# Altium integrated library PortiloopV2Altium_Project.IntLib: 39 symbols
Pins are listed as number, name and electrical type; pins without a type are passive.

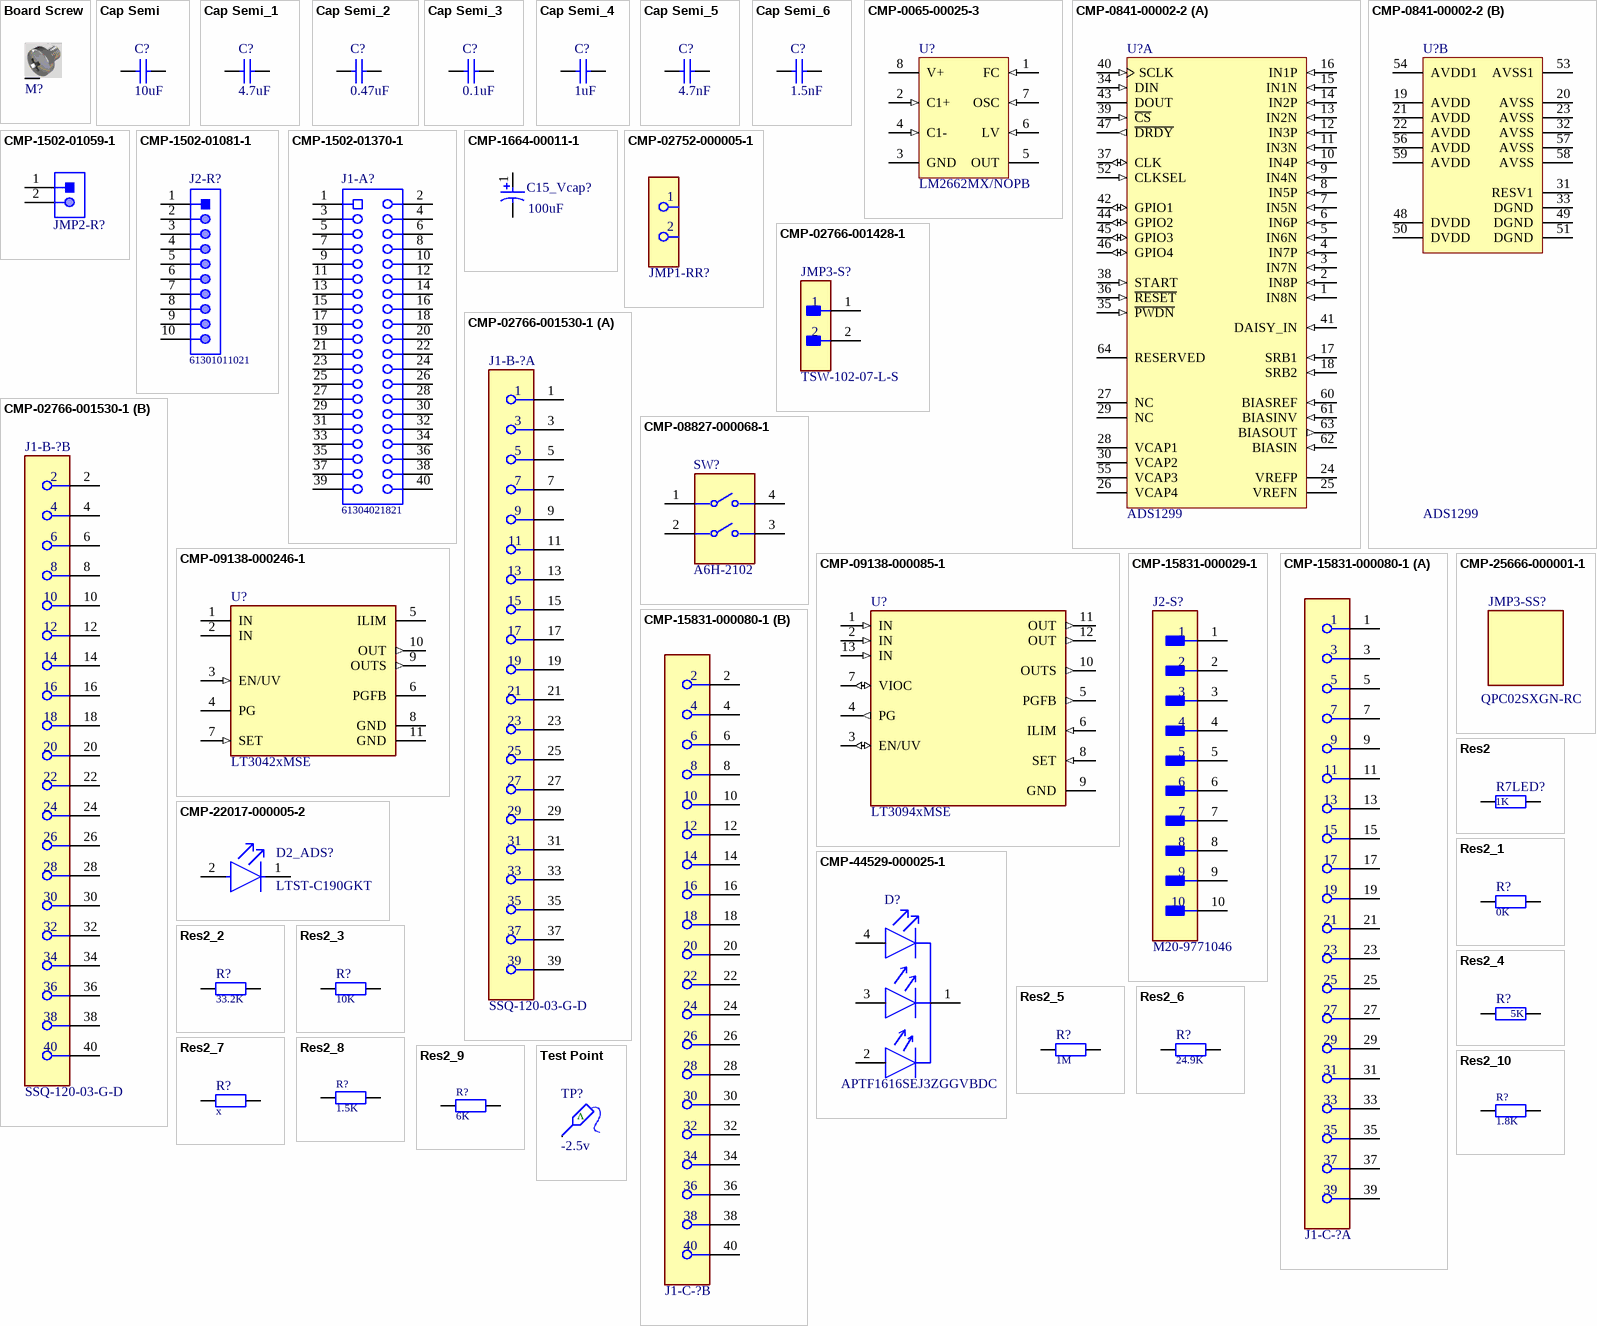
[diagram p0: symbols Board Screw to Test Point]

## Board Screw
designator M?, comment Screw  (value not drawn)
Board Screw With Spacer
footprint Board Screw_No Silk
pins: S

## Cap Semi
designator C?, comment value 10uF  (hidden comment: 10mkf)
Published: 8-Jun-2000; LatestRevisionDate: 29-May-2009; LatestRevisionNote: IPC-7351 Footprint Added.; PackageReference: C1206; Publisher: Altium Limited; PackageDescription: Chip Capacitor
footprint C1206 (Chip Capacitor, Body 3.2x1.6mm, IPC High Density)
footprint 0402 (Chip Capacitor, Body 1.0x0.5mm, IPC High Density)
footprint C2512 (Chip Capacitor, Body 2.54x1.27mm, IPC High Density)
footprint 1608[0603] (Chip Capacitor, Body 1.6x0.8mm, IPC High Density)
footprint C1210 (Chip Capacitor, Body 3.2x2.5mm, IPC High Density)
simulation model CAP (Semiconductor Capacitor)
signal-integrity model Cap Semi
pins: 1, 2

## Cap Semi_1
designator C?, comment value 4.7uF  (hidden comment: 4.7mkf)
Published: 8-Jun-2000; LatestRevisionDate: 29-May-2009; LatestRevisionNote: IPC-7351 Footprint Added.; PackageReference: C1206; Publisher: Altium Limited; PackageDescription: Chip Capacitor
footprint C1206 (Chip Capacitor, Body 3.2x1.6mm, IPC High Density)
footprint 0402 (Chip Capacitor, Body 1.0x0.5mm, IPC High Density)
footprint C2512 (Chip Capacitor, Body 2.54x1.27mm, IPC High Density)
footprint 1608[0603] (Chip Capacitor, Body 1.6x0.8mm, IPC High Density)
footprint C1210 (Chip Capacitor, Body 3.2x2.5mm, IPC High Density)
simulation model CAP (Semiconductor Capacitor)
signal-integrity model Cap Semi
pins: 1, 2

## Cap Semi_2
designator C?, comment value 0.47uF  (hidden comment: 0.47mkf)
Published: 8-Jun-2000; LatestRevisionDate: 29-May-2009; LatestRevisionNote: IPC-7351 Footprint Added.; PackageReference: C1206; Publisher: Altium Limited; PackageDescription: Chip Capacitor
footprint C1206 (Chip Capacitor, Body 3.2x1.6mm, IPC High Density)
footprint 0402 (Chip Capacitor, Body 1.0x0.5mm, IPC High Density)
footprint C2512 (Chip Capacitor, Body 2.54x1.27mm, IPC High Density)
footprint 1608[0603] (Chip Capacitor, Body 1.6x0.8mm, IPC High Density)
footprint C1210 (Chip Capacitor, Body 3.2x2.5mm, IPC High Density)
simulation model CAP (Semiconductor Capacitor)
signal-integrity model Cap Semi
pins: 1, 2

## Cap Semi_3
designator C?, comment value 0.1uF  (hidden comment: 0.1mkf)
Published: 8-Jun-2000; LatestRevisionDate: 29-May-2009; LatestRevisionNote: IPC-7351 Footprint Added.; PackageReference: C1206; Publisher: Altium Limited; PackageDescription: Chip Capacitor
footprint C1206 (Chip Capacitor, Body 3.2x1.6mm, IPC High Density)
footprint 0402 (Chip Capacitor, Body 1.0x0.5mm, IPC High Density)
footprint C2512 (Chip Capacitor, Body 2.54x1.27mm, IPC High Density)
footprint 1608[0603] (Chip Capacitor, Body 1.6x0.8mm, IPC High Density)
footprint C1210 (Chip Capacitor, Body 3.2x2.5mm, IPC High Density)
simulation model CAP (Semiconductor Capacitor)
signal-integrity model Cap Semi
pins: 1, 2

## Cap Semi_4
designator C?, comment value 1uF  (hidden comment: 1mkf)
Published: 8-Jun-2000; LatestRevisionDate: 29-May-2009; LatestRevisionNote: IPC-7351 Footprint Added.; PackageReference: C1206; Publisher: Altium Limited; PackageDescription: Chip Capacitor
footprint C1206 (Chip Capacitor, Body 3.2x1.6mm, IPC High Density)
footprint 0402 (Chip Capacitor, Body 1.0x0.5mm, IPC High Density)
footprint C2512 (Chip Capacitor, Body 2.54x1.27mm, IPC High Density)
footprint 1608[0603] (Chip Capacitor, Body 1.6x0.8mm, IPC High Density)
footprint C1210 (Chip Capacitor, Body 3.2x2.5mm, IPC High Density)
simulation model CAP (Semiconductor Capacitor)
signal-integrity model Cap Semi
pins: 1, 2

## Cap Semi_5
designator C?, comment 4.7nf
Published: 8-Jun-2000; LatestRevisionDate: 29-May-2009; LatestRevisionNote: IPC-7351 Footprint Added.; PackageReference: C1206; Publisher: Altium Limited; PackageDescription: Chip Capacitor; Value: 4.7nF
footprint C1206 (Chip Capacitor, Body 3.2x1.6mm, IPC High Density)
footprint 0402 (Chip Capacitor, Body 1.0x0.5mm, IPC High Density)
footprint C2512 (Chip Capacitor, Body 2.54x1.27mm, IPC High Density)
footprint 1608[0603] (Chip Capacitor, Body 1.6x0.8mm, IPC High Density)
footprint C1210 (Chip Capacitor, Body 3.2x2.5mm, IPC High Density)
simulation model CAP (Semiconductor Capacitor)
signal-integrity model Cap Semi
pins: 1, 2

## Cap Semi_6
designator C?, comment 1.5nf
Published: 8-Jun-2000; LatestRevisionDate: 29-May-2009; LatestRevisionNote: IPC-7351 Footprint Added.; PackageReference: C1206; Publisher: Altium Limited; PackageDescription: Chip Capacitor; Value: 1.5nF
footprint C1206 (Chip Capacitor, Body 3.2x1.6mm, IPC High Density)
footprint 0402 (Chip Capacitor, Body 1.0x0.5mm, IPC High Density)
footprint C2512 (Chip Capacitor, Body 2.54x1.27mm, IPC High Density)
footprint 1608[0603] (Chip Capacitor, Body 1.6x0.8mm, IPC High Density)
footprint C1210 (Chip Capacitor, Body 3.2x2.5mm, IPC High Density)
simulation model CAP (Semiconductor Capacitor)
signal-integrity model Cap Semi
pins: 1, 2

## CMP-0065-00025-3
designator U?, comment LM2662MX/NOPB
Switched Capacitor Voltage Converter, 8-pin Narrow SOIC, Pb-Free; Manufacturer: Texas Instruments; Manufacturer: TI National Semiconductor; PowerWise: N; CompType: Switch Caps; PackageTopMarking: NSZXTT*LM26*62M; PackageReference: D0008A; PinCount: 8; RoHS: Y; ComponentLink1URL: http://www.ti.com/general/docs/lit/getliterature.tsp?genericPartNumber=LM2662&fileType=pdf; Code_IPC: SOIC127P600-8; ComponentLink1Description: Datasheet URL; PackageDescription: SOIC Narrow, 4.9 x 3.9 x 1.45mm, 8 Lead, 1.27mm Pitch; Code_JEDEC: MS-012-AA; Manufacturer Part Number: LM2662MX/NOPB
footprint D0008A_M (SOIC, 8-Leads, Body 5x4mm, Pitch 1.27mm, IPC Low Density)
footprint D0008A_L (SOIC, 8-Leads, Body 5x4mm, Pitch 1.27mm, IPC High Density)
footprint D0008A_N (SOIC, 8-Leads, Body 5x4mm, Pitch 1.27mm, IPC Medium Density)
pins: 1 FC (in), 2 C1+ (in), 3 GND (power), 4 C1- (in), 5 OUT (power), 6 LV (in), 7 OSC (in), 8 V+ (power)

## CMP-0841-00002-2
designator U?, comment ADS1299
Low-Noise, 8-Channel, 24-Bit Analog Front-End for Biopotential Measurement, 16 KSPS, -40 to 85 degC, 64-Pin PQFP (PAG-64), RoHS, Tube; PartNumber: ADS1299IPAG; Manufacturer: Texas Instruments; Architecture: Delta-Sigma; Reference Mode: Int, Ext; # Input Channels: 8; Resolution (Bits): 24; Sample Rate (max) (KSPS): 16; Interface: Serial SPI; Packing: PAG0064A; PackageVersion: 4040282/C; PackageReference: PAG-64; ComponentLink3Description: Package Specification; DatasheetVersion: SBAS499A; ComponentLink1Description: Manufacturer URL; ComponentLink2Description: Datasheet; PackageDescription: 64-Pin Plastic Quad Flatpack, Body 10 x 10 mm, Pitch 0.5 mm; RoHS: TRUE; Operating Temperature Range (C): -40 to 85; ComponentLink3URL: http://www.ti.com/lit/ml/mtqf006a/mtqf006a.pdf; ComponentLink1URL: http://www.ti.com/; ComponentLink2URL: http://www.ti.com/lit/ds/symlink/ads1299.pdf; Mounting Technology: Surface Mount; Manufacturer Part Number: ADS1299IPAG
footprint PAG0064A_L (QFP, 64-Leads, Body 10x10mm, Pitch 0.5mm, IPC High Density)
footprint PAG0064A_M (QFP, 64-Leads, Body 10x10mm, Pitch 0.5mm, IPC Low Density)
footprint PAG0064A_N (QFP, 64-Leads, Body 10x10mm, Pitch 0.5mm, IPC Medium Density)
part A pins: 1 IN8N (in) "Differential analog negative input 8", 2 IN8P (in) "Differential analog positive input 8", 3 IN7N (in) "Differential analog negative input 7", 4 IN7P (in) "Differential analog positive input 7", 5 IN6N (in) "Differential analog negative input 6", 6 IN6P (in) "Differential analog positive input 6", 7 IN5N (in) "Differential analog negative input 5", 8 IN5P (in) "Differential analog positive input 5", 9 IN4N (in) "Differential analog negative input 4", 10 IN4P (in) "Differential analog positive input 4", 11 IN3N (in) "Differential analog negative input 3", 12 IN3P (in) "Differential analog positive input 3", 13 IN2N (in) "Differential analog negative input 2", 14 IN2P (in) "Differential analog positive input 2", 15 IN1N (in) "Differential analog negative input 1", 16 IN1P (in) "Differential analog positive input 1", 17 SRB1 (in) "Patient stimulus, reference, and bias signal 1", 18 SRB2 (in) "Patient stimulus, reference, and bias signal 2", 24 VREFP "Positive reference voltage", 25 VREFN "Negative reference voltage", 26 VCAP4 "Analog bypass capacitor", 27 NC "No connection", 28 VCAP1 "Analog bypass capacitor", 29 NC "No connection", 30 VCAP2 "Analog bypass capacitor", 34 DIN (in) "SPI data in", 35 ~{PWDN} (in) "Power-down; active low", 36 ~{RESET} (in) "System reset; active low", 37 CLK (io) "Master clock input", 38 START (in) "Start conversion", 39 ~{CS} (in) "SPI chip select; active low", 40 SCLK (in) "SPI clock", 41 DAISY_IN (in) "Daisy-chain input", 42 GPIO1 (io) "General-purpose input/output pin", 43 DOUT (hiz) "SPI data out", 44 GPIO2 (io) "General-purpose input/output pin", 45 GPIO3 (io) "GPIO3 in normal mode", 46 GPIO4 (io) "GPIO4 in normal mode", 47 ~{DRDY} (out) "Data ready; active low", 52 CLKSEL (in) "Master clock select", 55 VCAP3 "Analog bypass capacitor", 60 BIASREF (in) "Bias drive noninverting input", 61 BIASINV (in) "Bias drive inverting input", 62 BIASIN (in) "Bias drive input to MUX", 63 BIASOUT (out) "Bias drive output", 64 RESERVED "Leave as open circuit"
part B pins: 19 AVDD (power) "Analog supply", 20 AVSS (power) "Analog ground", 21 AVDD (power) "Analog supply", 22 AVDD (power) "Analog supply", 23 AVSS (power) "Analog ground", 31 RESV1 (power) "Reserved for future use. Must tie to logic low (DGND)", 32 AVSS (power) "Analog ground", 33 DGND (power) "Digital ground", 48 DVDD (power) "Digital power supply", 49 DGND (power) "Digital ground", 50 DVDD (power) "Digital power supply", 51 DGND (power) "Digital ground", 53 AVSS1 (power) "Analog ground", 54 AVDD1 (power) "Analog supply", 56 AVDD (power) "Analog supply", 57 AVSS (power) "Analog ground", 58 AVSS (power) "Charge pump analog ground", 59 AVDD (power) "Charge pump analog supply"

## CMP-1502-01059-1
designator JMP2-R?, comment 61300211021  (value not drawn)
THT Angled Pin Header WR-PHD, Pitch 2.54 mm, Single Row, 2 pins; Manufacturer: Wurth Elektronik; Manufacturer: Wurth Electronics; Withstanding Voltage: 500VAC; Gender: Male; Pitch: 2.54mm; Pin Number: 2; Rated Current: 3A; Contact Resistance: 20mOhm; Working Voltage: 250VAC; Mounting Technology: THT; Part Number: 61300211021; Manufacturer URL: http://www.we-online.de; Operating Temperature: -40to105degC; Row Number: Single; Publisher: WurthElektronik; Orientation: Angled; Datasheet URL: https://katalog.we-online.de/em/datasheet/6130xx11021.pdf; Packaging: Bag; Package Reference: 61300211021; Manufacturer Part Number: 61300211021
footprint 61300211021 (Pin Header, pitch 2.54 mm, THT, Angled, single row, 2p)
pins: 1, 2

## CMP-1502-01081-1
designator J2-R?, comment 61301011021
THT Angled Pin Header WR-PHD, Pitch 2.54 mm, Single Row, 10 pins; Manufacturer: Wurth Elektronik; Manufacturer: Wurth Electronics; Contact Resistance: 20mOhm; Pitch: 2.54mm; Gender: Male; Withstanding Voltage: 500VAC; Rated Current: 3A; Working Voltage: 250VAC; Pin Number: 10; Manufacturer URL: http://www.we-online.de; Package Reference: 61301011021; Publisher: WurthElektronik; Part Number: 61301011021; Datasheet URL: https://katalog.we-online.de/em/datasheet/6130xx11021.pdf; Packaging: Bag; Row Number: Single; Orientation: Angled; Mounting Technology: THT; Operating Temperature: -40to105degC; Manufacturer Part Number: 61301011021
footprint 61301011021 (Pin Header, pitch 2.54 mm, THT, Angled, single row, 10p)
pins: 1, 2, 3, 4, 5, 6, 7, 8, 9, 10

## CMP-1502-01370-1
designator J1-A?, comment 61304021821
THT Vertical Socket Header WR-PHD, Pitch 2.54 mm, Dual Row, 40 pins; Manufacturer: Wurth Elektronik; Manufacturer: Wurth Electronics; Pitch: 2.54mm; Withstanding Voltage: 500VAC; Rated Current: 3A; Gender: Female; Working Voltage: 250VAC; Pin Number: 40; Contact Resistance: 20mOhm; Datasheet URL: https://katalog.we-online.de/em/datasheet/6130xx21821.pdf; Operating Temperature: -40to125degC; Row Number: Dual; Mounting Technology: THT; Package Reference: 61304021821; Orientation: Vertical; Part Number: 61304021821; Manufacturer URL: http://www.we-online.de; Publisher: WurthElektronik; Packaging: Tray; Manufacturer Part Number: 61304021821
footprint 61304021821 (Socket Header, Pitch 2.54 mm, THT, Vertical, dual row, 40p)
pins: 1, 2, 3, 4, 5, 6, 7, 8, 9, 10, 11, 12, 13, 14, 15, 16, 17, 18, 19, 20, 21, 22, 23, 24, 25, 26, 27, 28, 29, 30, 31, 32, 33, 34, 35, 36, 37, 38, 39, 40

## CMP-1664-00011-1
designator C15_Vcap?, comment Capacitance: 100uF  (hidden comment: 100mkf)
Capacitor, Tantalum, 100 uF, +/- 10%, -55 to 125 degC, 2-Pin SMD, RoHS, Tape and Reel; Manufacturer: KEMET; Manufacturer Part Number: T491D107K010AT; Voltage Rating: 50 V; Case\Package: Radial; Tolerance: 20%; Lead Pitch: 2 mm; PackageReference: T491-D; REACH SVHC: No SVHC; Diameter: 5 mm; Pins: 2; PackageDescription: 2-Pin Surface Mount Device, Body 7.3 x 4.3 mm; ComponentLink1URL: http://www.kemet.com/; ComponentLink2URL: http://www.kemet.com/Lists/ProductCatalog/Attachments/254/KEM_T2005_T491.pdf; Packaging: Bulk; DatasheetVersion: Jun-16; Radiation Hardening: No; Voltage Rating (DC): 50 V; ComponentLink2Description: Datasheet; Height: 11 mm; RoHSCompliant: true; Min Operating Temperature: -40 degC; Mount: Through Hole; Max Operating Temperature: 85 degC; Package Quantity: 200; Length: 11 mm; ComponentLink1Description: Manufacturer URL
footprint KEMT-T491-D_L (Molded Capacitor, 2-Leads, Body 7.60x4.60mm, IPC High Density)
footprint KEMT-T491-D_N (Molded Capacitor, 2-Leads, Body 7.60x4.60mm, IPC Medium Density)
footprint KEMT-T491-D_M (Molded Capacitor, 2-Leads, Body 7.60x4.60mm, IPC Low Density)
pins: 1, 2

## CMP-02752-000005-1
designator JMP1-RR?, comment SNT-100-BK-G  (value not drawn)
CONN SHUNT 2POS; Manufacturer: Samtec; Number of Positions: 2; Max Current Rating: 2.5A; Pitch: 2.54mm; Contact Resistance: 5mR; Min Operating Temperature: -55°C; Number of Rows: 1; Housing Color: Black; Package Quantity: 1; Depth: 2.54mm; Housing Material: Polyester; Series: SNT; RoHS Compliant: Yes; Orientation: Straight; Radiation Hardening: No; Number of Contacts: 2; REACH SVHC: No SVHC; Length: 5.08mm; Contact Plating: Gold; Max Operating Temperature: 125°C; Color: Black; Packaging: Bulk; Height: 0.24inch; Contact Material: Bronze; Manufacturer Part Number: SNT-100-BK-G
footprint FP-SNT-100-BK-G-MFG

## CMP-02766-001428-1
designator JMP3-S?, comment TSW-102-07-L-S
CONN HEADER VERT 2POS 2.54MM; Manufacturer: Samtec; Voltage Rating: 550V; Current Rating: 7.6A; Gender: Male; Number of Contacts: 2; Connector Type: Male Pin; Radiation Hardening: No; Orientation: Straight; Contact Plating: Gold; Max Operating Temperature: 125°C; Mount: Through Hole; Package Quantity: 1; Number of Rows: 1; Housing Material: Polyester; RoHS Compliant: Yes; Length: 5.08mm; Max Voltage Rating (AC): 550V; Pitch: 2.54mm; Packaging: Bulk; Depth: 2.54mm; Termination: Solder; Min Operating Temperature: -55°C; Housing Color: Black; Lead Free: Lead Free; Color: Black; Number of Positions: 2; Width: 2.54mm; Max Current Rating: 7.6A; REACH SVHC: No SVHC; Contact Material: Bronze; Contact Mating Length: 0.23inch; Series: TSW; Contact Type: Male Pin; Manufacturer Part Number: TSW-102-07-L-S
footprint FP-TSW-102-07-L-S-MFG
pins: 1, 2

## CMP-02766-001530-1
designator J1-B-?, comment SSQ-120-03-G-D
CONN RCPT 40POS 0.1 GOLD PCB; Manufacturer: Samtec; Pitch: 0.1inch; Connector Type: Receptacle; Number of Contacts: 40; Contact Resistance: 10mR; Max Voltage Rating (AC): 550V; Gender: Female; Max Current Rating: 7.6A; RoHS Compliant: Yes; Contact Material: Bronze; Length: 51.31mm; Lead Free: Lead Free; Depth: 4.95mm; Width: 4.95mm; Packaging: Bulk; Mount: Through Hole; Contact Plating: Gold; Orientation: Straight; Contact Type: Female Socket; Min Operating Temperature: -55°C; Color: Black; Max Operating Temperature: 125°C; Radiation Hardening: No; Row Spacing: 0.1inch; Number of Positions: 40; Housing Material: Polymer; Termination: Solder; Housing Color: Black; Number of Rows: 2; Series: SSQ; Manufacturer Part Number: SSQ-120-03-G-D
footprint FP-SSQ-120-03-G-D-MFG
part A pins: 1, 3, 5, 7, 9, 11, 13, 15, 17, 19, 21, 23, 25, 27, 29, 31, 33, 35, 37, 39
part B pins: 2, 4, 6, 8, 10, 12, 14, 16, 18, 20, 22, 24, 26, 28, 30, 32, 34, 36, 38, 40

## CMP-08827-000068-1
designator SW?, comment A6H-2102
SWITCH SLIDE DIP SPST 25MA 24V; Manufacturer: Omron; Washable: Yes; Number of Circuits: 2; Actuator Type: Slide (Standard); Contact Resistance: 200mR; Pitch: 0.05inch; Mechanical Life: 1000Cycles; Actuator Length: 0mm; Number of Poles: 8; Weight: 0.06g; Orientation: Straight; Case/Package: DIP; Contact Current Rating: 25mA; Termination: Gull Wing; Package Quantity: 75; Series: A6H; Number of Positions: 2; Current Rating: 25mA; Throw Configuration: SPST; Height: 1.55mm; Max Current Rating: 25mA; Length: 0.148inch; RoHS Compliant: Yes; Voltage Rating (DC): 24V; Mount: Surface Mount; Max Voltage Rating (DC): 24V; Max Operating Temperature: 70°C; Terminal Pitch: 1.27mm; Packaging: Rail/Tube; Electrical Life: 1000Cycles; Min Operating Temperature: -20°C; Width: 4.5mm; Manufacturer Part Number: A6H-2102
footprint FP-A6H-2102-MFG
pins: 1, 2, 3, 4

## CMP-09138-000085-1
designator U?, comment LT3094xMSE
IC REG LIN NEG ADJ 500MA 12MSOP; Manufacturer: Analog Devices / Linear Technology; Manufacturer Part Number: LT3094IMSE#PBF; RoHS Compliant: Yes
footprint FP-MSE-12-05-08-1666-IPC_A
footprint FP-MSE-12-05-08-1666-IPC_C
footprint FP-MSE-12-05-08-1666-IPC_B
footprint FP-MSE-12-05-08-1666-MFG
pins: 1 IN (in), 2 IN (in), 3 EN/UV (io), 4 PG (out), 5 PGFB (out), 6 ILIM (in), 7 VIOC (io), 8 SET (in), 9 GND (power), 10 OUTS (out), 11 OUT (out), 12 OUT (out), 13 IN (in)

## CMP-09138-000246-1
designator U?, comment LT3042xMSE
IC REG LIN POS ADJ 200MA 10MSOP; Manufacturer: Analog Devices / Linear Technology; Manufacturer Part Number: LT3042IMSE#PBF; Min Input Voltage: 1.8V; Max Output Voltage: 15V; Dropout Voltage: 350mV; Output Type: Adjustable; Max Input Voltage: 20V; Number of Regulators: 1; Min Output Voltage: 0V; Min Current Limit: 220mA; Output Current: 200mA; REACH SVHC: No SVHC; Max Operating Temperature: 125°C; Packaging: Rail/Tube; RoHS Compliant: Yes; Output Voltage: 15V; Number of Pins: 10; Mount: Surface Mount; Min Operating Temperature: -40°C; Series: -; Case/Package: MSOP
footprint FP-MSE-10-05-08-1664-IPC_B
footprint FP-MSE-10-05-08-1664-IPC_C
footprint FP-MSE-10-05-08-1664-IPC_A
footprint FP-MSE-10-05-08-1664-MFG
pins: 1 IN (power), 2 IN (power), 3 EN/UV (in), 4 PG (oc), 5 ILIM, 6 PGFB, 7 SET (in), 8 GND (oe), 9 OUTS (out), 10 OUT (out), 11 GND (power)

## CMP-15831-000029-1
designator J2-S?, comment M20-9771046
CONN HEADER VERT 10POS 2.54MM; Manufacturer: Harwin; Gender: Male; Number of Positions: 10; Connector Type: Male Pin; Voltage Rating: 750V; Current Rating: 3A; Contact Plating: Tin; Mount: Through Hole; Radiation Hardening: No; Packaging: Bulk; Pitch: 2.54mm; Number of Rows: 1; Series: M20; Contact Type: Male Pin; Color: Black; Package Quantity: 500; Contact Mating Length: 0.228inch; Case/Package: SIL; Termination: Solder; Number of Contacts: 10; Housing Material: Nylon; Contact Material: Brass; Manufacturer Part Number: M20-9771046
footprint FP-M20-9771046-MFG
pins: 1, 2, 3, 4, 5, 6, 7, 8, 9, 10

## CMP-15831-000080-1
designator J1-C-?, comment M20-6102045  (value not drawn)
CONN STKTHRU PC/104 40POS PCB; Manufacturer: Harwin; Current Rating: 3A; Pitch: 2.54mm; Insulation Resistance: 5GR; Contact Resistance: 30mR; Number of Positions: 40; Gender: Receptacle; REACH SVHC: No SVHC; Housing Material: Nylon; Number of Rows: 2; Min Operating Temperature: -55°C; Contact Plating: Gold; Orientation: Straight; Mount: Through Hole; Contact Material: Bronze; Length: 51.46mm; Weight: 0.218205oz; Number of Contacts: 40; Packaging: Rail/Tube; Depth: 5.25mm; Termination: Solder; Radiation Hardening: No; Flammability Rating: UL94 V-0; Housing Color: Black; Max Operating Temperature: 105°C; Material: Nylon; Package Quantity: 11; Color: Black; Max Current Rating: 3A; Series: M20; Manufacturer Part Number: M20-6102045
footprint FP-M20-6102045-MFG
part A pins: 1, 3, 5, 7, 9, 11, 13, 15, 17, 19, 21, 23, 25, 27, 29, 31, 33, 35, 37, 39
part B pins: 2, 4, 6, 8, 10, 12, 14, 16, 18, 20, 22, 24, 26, 28, 30, 32, 34, 36, 38, 40

## CMP-22017-000005-2
designator D2_ADS?, comment LTST-C190GKT
LED GREEN CLEAR CHIP SMD; Manufacturer: Vishay Lite-On; Dominant Wavelength: 569nm; Reverse Voltage: 5V; Lens Color: Colorless; Viewing Angle: 130°; Voltage: 2V; Forward Current: 30mA; Power Dissipation: 100mW; Luminous Intensity: 6mcd; Number of LEDs: 1; Forward Voltage: 2.1V; Wavelength: 565nm; Test Current: 10mA; Min Operating Temperature: -55°C; Lens Style: Clear; Mount: Surface Mount; Width: 0.8mm; Packaging: Tape and Reel; Lens Transparency: Clear; Case Code (Metric): 1608; Depth: 0.8mm; Case Code (Imperial): 0603; Case/Package: 0603; Number of Pins: 2; Max Operating Temperature: 85°C; Lead Free: Lead Free; Number of Elements: 1; Length: 1.6mm; Height: 0.8mm; Package Quantity: 1; Power Rating: 100mW; Radiation Hardening: No; Illumination Color: Green; Color: Green; Manufacturer Part Number: LTST-C190GKT
footprint FP-LTST-C190GKT-MFG
pins: 1 C, 2 A

## CMP-25666-000001-1
designator JMP3-SS?, comment QPC02SXGN-RC
CONN JUMPER SHORTING .100" GOLD; Manufacturer: Sullins; Conn Orientation: Straight; Pitch: 2.54mm; Current Rating: 3A; Number Of Contacts: 2; Category: Conn; Temperature Range Low: -40°C; Temperature Range High: +85°C; Device Class L1: Connectors; Lead Free: Yes; Manufacturer Part Number: QPC02SXGN-RC; Automotive: No; Height: 6.17mm; ComponentLink2URL: https://s3.amazonaws.com/catalogspreads-pdf/PAGE128-129%20.100%20JUMPER.pdf; Device Class L2: unset; Footprint Url: https://drawings-pdf.s3.amazonaws.com/11510.pdf; Device Class L3: unset; Temperature: -40°C to +85°C; RoHS: TRUE; Digikey Description: CONN JUMPER SHORTING .100" GOLD; Octopart: https://octopart.com/qpc02sxgn-rc-sullins-19878795; Package: 0; ComponentLink2Description: Datasheet; Contact Material: Gold
footprint FP-QPC02SXGN-RC-MFG

## CMP-44529-000025-1
designator D?, comment APTF1616SEJ3ZGGVBDC
LED RGB CLEAR 4SMD; Manufacturer: Kingbright; Luminous Intensity: 140mcd; Test Current: 20mA; Forward Voltage: 3.3V; Lens Color: Colorless; Illumination Color: Blue; Viewing Angle: 120°; Dominant Wavelength: 470nm; Width: 1.6mm; Mount: Surface Mount; Height: 0.9mm; Case/Package: 0606; Max Operating Temperature: 85°C; Color: Blue; Lens Transparency: Clear; Min Operating Temperature: -40°C; Forward Current: 20mA; Length: 1.6mm; Packaging: Tape and Reel; Package Quantity: 2000; Manufacturer Part Number: APTF1616SEJ3ZGGVBDC
footprint FP-APTF1616SEJ3ZGGVBDC-MFG
pins: 1 COMMON CATHODE, 2 RED A, 3 GREEN A, 4 BLUE A

## Res2
designator R7LED?, comment 1K
Resistor; Published: 8-Jun-2000; LatestRevisionDate: 17-Jul-2002; LatestRevisionNote: Re-released for DXP Platform.; PackageReference: AXIAL-0.4; Publisher: Altium Limited; PackageDescription: Axial Device, Thru-Hole; 2 Leads; 0.4 in Pin Spacing; Value: 1K
footprint 1608[0603] (Chip Capacitor, Body 1.6x0.8mm, IPC High Density)
simulation model RESISTOR (Resistor)
signal-integrity model Res
pins: 1, 2

## Res2_1
designator R?, comment 0K
Resistor; Published: 8-Jun-2000; LatestRevisionDate: 17-Jul-2002; LatestRevisionNote: Re-released for DXP Platform.; PackageReference: AXIAL-0.4; Publisher: Altium Limited; PackageDescription: Axial Device, Thru-Hole; 2 Leads; 0.4 in Pin Spacing; Value: 0K
footprint 1608[0603] (Chip Capacitor, Body 1.6x0.8mm, IPC High Density)
simulation model RESISTOR (Resistor)
signal-integrity model Res
pins: 1, 2

## Res2_2
designator R?, comment 33.2K
Resistor; Published: 8-Jun-2000; LatestRevisionDate: 17-Jul-2002; LatestRevisionNote: Re-released for DXP Platform.; PackageReference: AXIAL-0.4; Publisher: Altium Limited; PackageDescription: Axial Device, Thru-Hole; 2 Leads; 0.4 in Pin Spacing; Value: 33.2K
footprint 1608[0603] (Chip Capacitor, Body 1.6x0.8mm, IPC High Density)
simulation model RESISTOR (Resistor)
signal-integrity model Res
pins: 1, 2

## Res2_3
designator R?, comment 10K
Resistor; Published: 8-Jun-2000; LatestRevisionDate: 17-Jul-2002; LatestRevisionNote: Re-released for DXP Platform.; PackageReference: AXIAL-0.4; Publisher: Altium Limited; PackageDescription: Axial Device, Thru-Hole; 2 Leads; 0.4 in Pin Spacing; Value: 10K
footprint 1608[0603] (Chip Capacitor, Body 1.6x0.8mm, IPC High Density)
simulation model RESISTOR (Resistor)
signal-integrity model Res
pins: 1, 2

## Res2_4
designator R?, comment 5K
Resistor; Published: 8-Jun-2000; LatestRevisionDate: 17-Jul-2002; LatestRevisionNote: Re-released for DXP Platform.; PackageReference: AXIAL-0.4; Publisher: Altium Limited; PackageDescription: Axial Device, Thru-Hole; 2 Leads; 0.4 in Pin Spacing; Value: 5K
footprint 1608[0603] (Chip Capacitor, Body 1.6x0.8mm, IPC High Density)
simulation model RESISTOR (Resistor)
signal-integrity model Res
pins: 1, 2

## Res2_5
designator R?, comment 1M
Resistor; Published: 8-Jun-2000; LatestRevisionDate: 17-Jul-2002; LatestRevisionNote: Re-released for DXP Platform.; PackageReference: AXIAL-0.4; Publisher: Altium Limited; PackageDescription: Axial Device, Thru-Hole; 2 Leads; 0.4 in Pin Spacing; Value: 1M
footprint 1608[0603] (Chip Capacitor, Body 1.6x0.8mm, IPC High Density)
simulation model RESISTOR (Resistor)
signal-integrity model Res
pins: 1, 2

## Res2_6
designator R?, comment 24.9K
Resistor; Published: 8-Jun-2000; LatestRevisionDate: 17-Jul-2002; LatestRevisionNote: Re-released for DXP Platform.; PackageReference: AXIAL-0.4; Publisher: Altium Limited; PackageDescription: Axial Device, Thru-Hole; 2 Leads; 0.4 in Pin Spacing; Value: 24.9K
footprint 1608[0603] (Chip Capacitor, Body 1.6x0.8mm, IPC High Density)
simulation model RESISTOR (Resistor)
signal-integrity model Res
pins: 1, 2

## Res2_7
designator R?, comment x
Not Connected; Published: 8-Jun-2000; LatestRevisionDate: 17-Jul-2002; LatestRevisionNote: Re-released for DXP Platform.; PackageReference: AXIAL-0.4; Publisher: Altium Limited; PackageDescription: Axial Device, Thru-Hole; 2 Leads; 0.4 in Pin Spacing; Value: x
footprint 1608[0603] (Chip Capacitor, Body 1.6x0.8mm, IPC High Density)
simulation model RESISTOR (Resistor)
signal-integrity model Res
pins: 1, 2

## Res2_8
designator R?, comment 1.5K
Resistor; Published: 8-Jun-2000; LatestRevisionDate: 17-Jul-2002; LatestRevisionNote: Re-released for DXP Platform.; PackageReference: AXIAL-0.4; Publisher: Altium Limited; PackageDescription: Axial Device, Thru-Hole; 2 Leads; 0.4 in Pin Spacing; Value: 1.5K
footprint 1608[0603] (Chip Capacitor, Body 1.6x0.8mm, IPC High Density)
simulation model RESISTOR (Resistor)
signal-integrity model Res
pins: 1, 2

## Res2_9
designator R?, comment 6K
Resistor; Published: 8-Jun-2000; LatestRevisionDate: 17-Jul-2002; LatestRevisionNote: Re-released for DXP Platform.; PackageReference: AXIAL-0.4; Publisher: Altium Limited; PackageDescription: Axial Device, Thru-Hole; 2 Leads; 0.4 in Pin Spacing; Value: 6K
footprint 1608[0603] (Chip Capacitor, Body 1.6x0.8mm, IPC High Density)
simulation model RESISTOR (Resistor)
signal-integrity model Res
pins: 1, 2

## Res2_10
designator R?, comment 1.8K
Resistor; Published: 8-Jun-2000; LatestRevisionDate: 17-Jul-2002; LatestRevisionNote: Re-released for DXP Platform.; PackageReference: AXIAL-0.4; Publisher: Altium Limited; PackageDescription: Axial Device, Thru-Hole; 2 Leads; 0.4 in Pin Spacing; Value: 1.8K
footprint 1608[0603] (Chip Capacitor, Body 1.6x0.8mm, IPC High Density)
simulation model RESISTOR (Resistor)
signal-integrity model Res
pins: 1, 2

## Test Point
designator TP?, comment -2.5v
Test Point
footprint TESTPOINT1
pins: 1 T
text: v

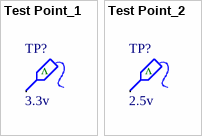
[diagram p1: symbols Test Point_1 to Test Point_2]

## Test Point_1
designator TP?, comment 3.3v
Test Point
footprint TESTPOINT1
pins: 1 T
text: v

## Test Point_2
designator TP?, comment 2.5v
Test Point
footprint TESTPOINT1
pins: 1 T
text: v